# Altium integrated library WE-UNIT Off-Line Transformer.IntLib: 12 symbols
Pins are listed as number, name and electrical type; pins without a type are passive.

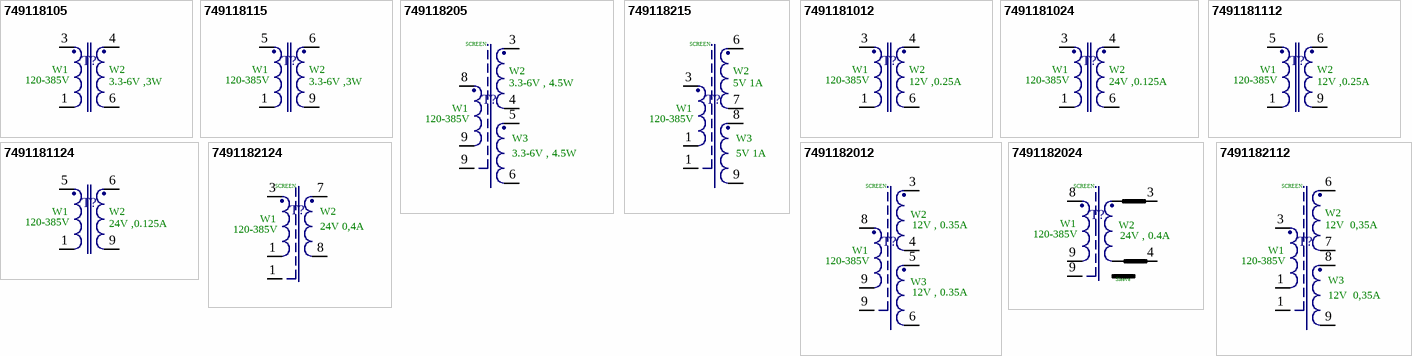
[diagram p0: symbols 749118105 to 7491182124]

## 749118105
designator T?
Off-Line Transformer WE-UNIT , L=2.8mH; PartNumber: 749118105; Inductance: 2.8mH; Turns Ratio: 18.9; Input Votage (AC): 85-265; Output voltage (DC): 5; Output Current (A): 0.6; PackageReference: EE13/7/4-Vertical/(EF12.6); ComponentLink1Description: Manufacturer URL; ComponentLink1URL: http://www.we-online.com; ComponentLink2Description: Datasheet; ComponentLink2URL: http://www.we-online.de/katalog/media/pdf/749118105.pdf
footprint EE13/7/4-Vertical/(EF12.6) (THT, 6-Leads, Body 15 x11mm (max), Pitch 3.81mm)
pins: 1, 3, 4, 6
text: W1; W2; 120-385V; 3.3-6V ,3W

## 749118115
designator T?
Off-Line Transformer WE-UNIT , L=2.8mH; PartNumber: 749118115; Inductance: 2.8mH; Turns Ratio: 18.9; Input Voltage (AC): 85-265; Output Current (A): 0.6; Output Voltage (DC): 5; PackageReference: EE13/7/4-Horizontal/(EF12.6); ComponentLink1Description: Manufacturer URL; ComponentLink1URL: http://www.we-online.com; ComponentLink2Description: Datasheet; ComponentLink2URL: http://www.we-online.de/katalog/media/pdf/749118115.pdf
footprint EE13/7/4-Horizontal/(EF12.6) (THT, 9-Leads, Body 21.5x15mm (max), Pitch 2.72mm)
pins: 1, 5, 6, 9
text: W1; W2; 120-385V; 3.3-6V ,3W

## 749118205
designator T?
Off-Line Transformer WE-UNIT , L=0.9mH; PartNumber: 749118205; Inductance: 0.9mH; Turns Ratio: 19; Input Voltage (AC): 85-265; Output Voltage (DC): 5; Output Current (A): 0.6; PackageReference: EE16/7/4 (E16); ComponentLink1Description: Manufacturer URL; ComponentLink1URL: http://www.we-online.com; ComponentLink2Description: Datasheet; ComponentLink2URL: http://www.we-online.de/katalog/media/pdf/749118205.pdf
footprint EE16/7/4 (E16) (THT, 10-Leads, Body 18x16.5mm (max), Pitch 2.7mm)
pins: 3, 4, 5, 6, 8, 9, 9
text: SCREEN; W2; 3.3-6V , 4.5W; W1; 120-385V; W3

## 749118215
designator T?
Off-Line Transformer WE-UNIT , L=0.9mH; PartNumber: 749118215; Inductance: 0.9mH; Turns Ratio: 19; Input Voltage (AC): 85-265; Output Voltage (DC): 5; Output Current (A): 0.6; PackageReference: EE16/8/5 (EF16); ComponentLink1Description: Manufacturer URL; ComponentLink1URL: http://www.we-online.com; ComponentLink2Description: Datasheet; ComponentLink2URL: http://www.we-online.de/katalog/media/pdf/749118215.pdf
footprint EE16/8/5 (EF16) (THT, 9-Leads, Body 24.5x20.2mm (max), Pitch 2.7mm)
pins: 1, 1, 3, 6, 7, 8, 9
text: SCREEN; W2; 5V 1A; W1; 120-385V; W3

## 7491181012
designator T?
Off-Line Transformer WE-UNIT , L=2.8mH; PartNumber: 7491181012; Inductance: 2.8mH; Turns Ratio: 8.1; Input Voltage (AC): 85-265; Output Current (A): 0.25; Output Voltage (DC): 12; PackageReference: EE13/7/4-Vertical/(EF12.6); ComponentLink1Description: Manufacturer URL; ComponentLink1URL: http://www.we-online.com; ComponentLink2Description: Datasheet; ComponentLink2URL: http://www.we-online.de/katalog/media/pdf/7491181012.pdf
footprint EE13/7/4-Vertical/(EF12.6) (THT, 6-Leads, Body 15 x11mm (max), Pitch 3.81mm)
pins: 1, 3, 4, 6
text: W1; W2; 120-385V; 12V ,0.25A

## 7491181024
designator T?
Off-Line Transformer WE-UNIT , L=2.8mH; PartNumber: 7491181024; Inductance: 2.8mH; Turns Ratio: 4; Input Voltage (AC): 85-265; Output Current (A): 0.125; Output Voltage (DC): 24; PackageReference: EE13/7/4-Vertical/(EF12.6); ComponentLink1Description: Manufacturer URL; ComponentLink1URL: http://www.we-online.com; ComponentLink2Description: Datasheet; ComponentLink2URL: http://www.we-online.de/katalog/media/pdf/7491181024.pdf
footprint EE13/7/4-Vertical/(EF12.6) (THT, 6-Leads, Body 15 x11mm (max), Pitch 3.81mm)
pins: 1, 3, 4, 6
text: W1; W2; 120-385V; 24V ,0.125A

## 7491181112
designator T?
Off-Line Transformer WE-UNIT , L=2.8mH; PartNumber: 7491181112; Inductance: 2.8mH; Turns Ratio: 8.1; Output current (A): 0.25; Output Voltage (DC): 12; Input Voltage (AC): 85-265; PackageReference: EE13/7/4-Horizontal/(EF12.6); ComponentLink1Description: Manufacturer URL; ComponentLink1URL: http://www.we-online.com; ComponentLink2Description: Datasheet; ComponentLink2URL: http://www.we-online.de/katalog/media/pdf/7491181112.pdf
footprint EE13/7/4-Horizontal/(EF12.6) (THT, 9-Leads, Body 21.5x15mm (max), Pitch 2.72mm)
pins: 1, 5, 6, 9
text: W1; W2; 120-385V; 12V ,0.25A

## 7491181124
designator T?
Off-Line Transformer WE-UNIT , L=2.8mH; PartNumber: 7491181124; Inductance: 2.8mH; Turns Ratio: 4; Output Voltage (DC): 24; Output Current: 0.125; Input Voltage (AC): 85-265; PackageReference: EE13/7/4-Horizontal/(EF12.6); ComponentLink1Description: Manufacturer URL; ComponentLink1URL: http://www.we-online.com; ComponentLink2Description: Datasheet; ComponentLink2URL: http://www.we-online.de/katalog/media/pdf/7491181124.pdf
footprint EE13/7/4-Horizontal/(EF12.6) (THT, 9-Leads, Body 21.5x15mm (max), Pitch 2.72mm)
pins: 1, 5, 6, 9
text: W1; W2; 120-385V; 24V ,0.125A

## 7491182012
designator T?
Off-Line Transformer WE-UNIT , L=0.9mH; PartNumber: 7491182012; Inductance: 0.9mH; Turns Ratio: 9.5; Input Voltage (AC): 85-265; Output Voltage (DC): 12; Output Current (A): 0.6; PackageReference: EE16/7/4 (E16); ComponentLink1Description: Manufacturer URL; ComponentLink1URL: http://www.we-online.com; ComponentLink2Description: Datasheet; ComponentLink2URL: http://www.we-online.de/katalog/media/pdf/7491182012.pdf
footprint EE16/7/4 (E16) (THT, 10-Leads, Body 18x16.5mm (max), Pitch 2.7mm)
pins: 3, 4, 5, 6, 8, 9, 9
text: SCREEN; W2; 12V , 0.35A; W1; 120-385V; W3

## 7491182024
designator T?
Off-Line Transformer WE-UNIT , L=0.9mH; PartNumber: 7491182024; Inductance: 0.9mH; Turns Ratio: 4.4; Output Current (A): 0.125; Output Voltage (DC): 24; Input Voltage (AC): 85-265; PackageReference: EE16/7/4 (E16); ComponentLink1Description: Manufacturer URL; ComponentLink1URL: http://www.we-online.com; ComponentLink2Description: Datasheet; ComponentLink2URL: http://www.we-online.de/katalog/media/pdf/7491182024.pdf
footprint EE16/7/4 (E16) (THT, 10-Leads, Body 18x16.5mm (max), Pitch 2.7mm)
pins: 3, 4, 8, 9, 9
text: SCREEN; W1; W2; 120-385V; 24V , 0.4A; Sleeve

## 7491182112
designator T?
Off-Line Transformer WE-UNIT , L=0.9mH; PartNumber: 7491182112; Inductance: 0.9mH; Turns Ratio: 9.5; Output Current (A): 0.25; Output Voltage(DC): 12; Input Voltage (AC): 85-265; PackageReference: EE16/8/5 (EF16); ComponentLink1Description: Manufacturer URL; ComponentLink1URL: http://www.we-online.com; ComponentLink2Description: Datasheet; ComponentLink2URL: http://www.we-online.de/katalog/media/pdf/7491182112.pdf
footprint EE16/8/5 (EF16) (THT, 9-Leads, Body 24.5x20.2mm (max), Pitch 2.7mm)
pins: 1, 1, 3, 6, 7, 8, 9
text: SCREEN; W2; 12V  0,35A; W1; 120-385V; W3

## 7491182124
designator T?
Off-Line Transformer WE-UNIT , L=0.9mH; PartNumber: 7491182124; Inductance: 0.9mH; Turns Ratio: 4.4; Input Voltage (AC): 85-265; Output current (A): 0.125; Output Voltage (DC): 24; PackageReference: EE16/8/5 (EF16); ComponentLink1Description: Manufacturer URL; ComponentLink1URL: http://www.we-online.com; ComponentLink2Description: Datasheet; ComponentLink2URL: http://www.we-online.de/katalog/media/pdf/7491182124.pdf
footprint EE16/8/5 (EF16) (THT, 9-Leads, Body 24.5x20.2mm (max), Pitch 2.7mm)
pins: 1, 1, 3, 7, 8
text: SCREEN; W2; W1; 120-385V; 24V 0,4A